# EAGLE library part R7FA4M1AB3CFM#AA0 (library R7FA4M1AB3CFM#AA0)
The Renesas RA4M1 group of microcontrollers (MCUs) uses the high-performance Arm Cortex-M4 core and offers a segment LCD controller and a capacitive touch sensing unit input for intensive HMI designs. The RA4M1 MCU is built on a highly efficient low power process and is supported by an open and flexible ecosystem conceptthe Flexible Software Package (FSP), built on FreeRTOSand is expandable to use other RTOSes and middleware. The RA4M1 is suitable for applications where a large amount of capacitive touc Source: Datasheet <https://www.renesas.com/document/dst/renesas-ra4m1-group-datasheet?language=en&r=1054146>
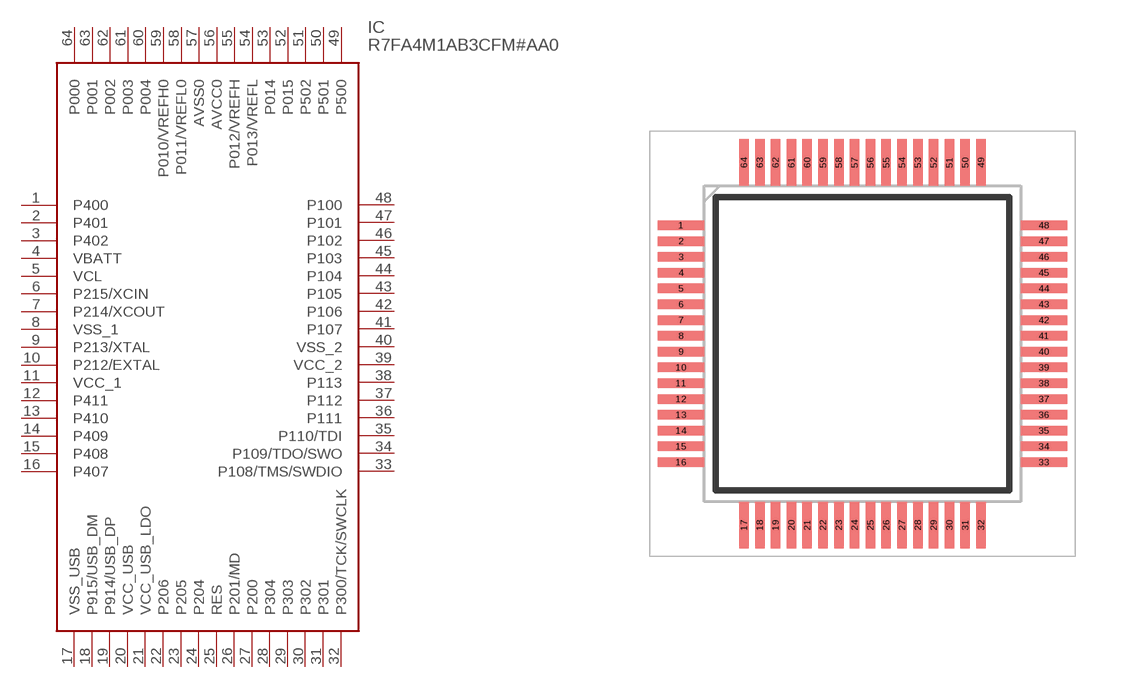
[diagram p0: symbol with the pads of QFP50P1200X1200X170-64N; footprint QFP50P1200X1200X170-64N]

Designator prefix IC

## R7FA4M1AB3CFM#AA0 (Description: The Renesas RA4M1 group of microcontrollers (MCUs) uses the high-performance Arm Cortex-M4 core and offers a segment LCD controller and a capacitive touch sensing unit input for intensive HMI designs. The RA4M1 MCU is built on a highly efficient low power process and is supported by an open and flexible ecosystem conceptthe Flexible Software Package (FSP), built on FreeRTOSand is expandable to use other RTOSes and middleware. The RA4M1 is suitable for applications where a large amount of capacitive touc; Height: 1.7mm; Manufacturer_Name: Renesas Electronics; Manufacturer_Part_Number: R7FA4M1AB3CFM#AA0; Mouser_Part_Number: 968-7FA4M1AB3CFM#AA0; Mouser_Price-Stock: https://www.mouser.co.uk/ProductDetail/Renesas-Electronics/R7FA4M1AB3CFMAA0?qs=d0WKAl%252BL4KbrKuAsyurXHw%3D%3D)  [QFP50P1200X1200X170-64N]
1  P400
2  P401
3  P402
4  VBATT
5  VCL
6  P215/XCIN
7  P214/XCOUT
8  VSS_1
9  P213/XTAL
10  P212/EXTAL
11  VCC_1
12  P411
13  P410
14  P409
15  P408
16  P407
17  VSS_USB
18  P915/USB_DM
19  P914/USB_DP
20  VCC_USB
21  VCC_USB_LDO
22  P206
23  P205
24  P204
25  RES
26  P201/MD
27  P200
28  P304
29  P303
30  P302
31  P301
32  P300/TCK/SWCLK
33  P108/TMS/SWDIO
34  P109/TDO/SWO
35  P110/TDI
36  P111
37  P112
38  P113
39  VCC_2
40  VSS_2
41  P107
42  P106
43  P105
44  P104
45  P103
46  P102
47  P101
48  P100
49  P500
50  P501
51  P502
52  P015
53  P014
54  P013/VREFL
55  P012/VREFH
56  AVCC0
57  AVSS0
58  P011/VREFL0
59  P010/VREFH0
60  P004
61  P003
62  P002
63  P001
64  P000

## Footprint QFP50P1200X1200X170-64N (pad centres in mm)
PLQP0064KB-C
smd 1.475 x 0.3: 1 -5.738,3.75; 2 -5.738,3.25; 3 -5.738,2.75; 4 -5.738,2.25; 5 -5.738,1.75; 6 -5.738,1.25; 7 -5.738,0.75; 8 -5.738,0.25; 9 -5.738,-0.25; 10 -5.738,-0.75; 11 -5.738,-1.25; 12 -5.738,-1.75; 13 -5.738,-2.25; 14 -5.738,-2.75; 15 -5.738,-3.25; 16 -5.738,-3.75; 33 5.738,-3.75; 34 5.738,-3.25; 35 5.738,-2.75; 36 5.738,-2.25; 37 5.738,-1.75; 38 5.738,-1.25; 39 5.738,-0.75; 40 5.738,-0.25; 41 5.738,0.25; 42 5.738,0.75; 43 5.738,1.25; 44 5.738,1.75; 45 5.738,2.25; 46 5.738,2.75; 47 5.738,3.25; 48 5.738,3.75
smd 0.3 x 1.475: 17 -3.75,-5.738; 18 -3.25,-5.738; 19 -2.75,-5.738; 20 -2.25,-5.738; 21 -1.75,-5.738; 22 -1.25,-5.738; 23 -0.75,-5.738; 24 -0.25,-5.738; 25 0.25,-5.738; 26 0.75,-5.738; 27 1.25,-5.738; 28 1.75,-5.738; 29 2.25,-5.738; 30 2.75,-5.738; 31 3.25,-5.738; 32 3.75,-5.738; 49 3.75,5.738; 50 3.25,5.738; 51 2.75,5.738; 52 2.25,5.738; 53 1.75,5.738; 54 1.25,5.738; 55 0.75,5.738; 56 0.25,5.738; 57 -0.25,5.738; 58 -0.75,5.738; 59 -1.25,5.738; 60 -1.75,5.738; 61 -2.25,5.738; 62 -2.75,5.738; 63 -3.25,5.738; 64 -3.75,5.738